# Altium footprint library UFQFPN48.PcbLib: 1 footprints
Each footprint in its own frame and in the unit in brackets; x right, y up, seen from the top. Pads: shape width x height; smd on the part's side, far side on the other; paste and mask are expansions set on the pad; w line width, h text height; cw(c..) or ccw(c..) is an arc to the next point about the centre after c.
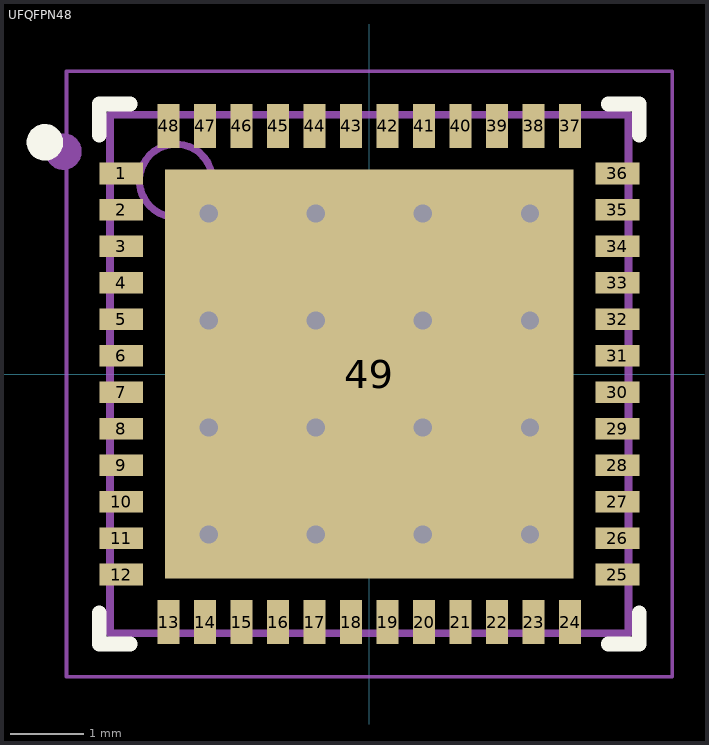
[diagram p0: the footprint, top view; thin cyan lines are the x and y axes]

## UFQFPN48 [mm]
pads (49):
  rect 0.6x0.3 smd: 1(-3.4,2.75) 2(-3.4,2.25) 3(-3.4,1.75) 4(-3.4,1.25) 5(-3.4,0.75) 6(-3.4,0.25) 7(-3.4,-0.25) 8(-3.4,-0.75) 9(-3.4,-1.25) 10(-3.4,-1.75) 11(-3.4,-2.25) 12(-3.4,-2.75) 25(3.4,-2.75) 26(3.4,-2.25) 27(3.4,-1.75) 28(3.4,-1.25) 29(3.4,-0.75) 30(3.4,-0.25) 31(3.4,0.25) 32(3.4,0.75) 33(3.4,1.25) 34(3.4,1.75) 35(3.4,2.25) 36(3.4,2.75)
  rect 0.3x0.6 smd: 13(-2.75,-3.4) 14(-2.25,-3.4) 15(-1.75,-3.4) 16(-1.25,-3.4) 17(-0.75,-3.4) 18(-0.25,-3.4) 19(0.25,-3.4) 20(0.75,-3.4) 21(1.25,-3.4) 22(1.75,-3.4) 23(2.25,-3.4) 24(2.75,-3.4) 37(2.75,3.4) 38(2.25,3.4) 39(1.75,3.4) 40(1.25,3.4) 41(0.75,3.4) 42(0.25,3.4) 43(-0.25,3.4) 44(-0.75,3.4) 45(-1.25,3.4) 46(-1.75,3.4) 47(-2.25,3.4) 48(-2.75,3.4)
  rect 5.6x5.6 smd: 49(0,0)
via 2.2,2.2 diameter 0.6 hole 0.25
via 2.2,-2.2 diameter 0.6 hole 0.25
via 2.2,-0.733 diameter 0.6 hole 0.25
via 2.2,0.733 diameter 0.6 hole 0.25
via 0.733,2.2 diameter 0.6 hole 0.25
via 0.733,-2.2 diameter 0.6 hole 0.25
via 0.733,-0.733 diameter 0.6 hole 0.25
via 0.733,0.733 diameter 0.6 hole 0.25
via -0.733,2.2 diameter 0.6 hole 0.25
via -0.733,-2.2 diameter 0.6 hole 0.25
via -0.733,-0.733 diameter 0.6 hole 0.25
via -0.733,0.733 diameter 0.6 hole 0.25
via -2.2,2.2 diameter 0.6 hole 0.25
via -2.2,-2.2 diameter 0.6 hole 0.25
via -2.2,-0.733 diameter 0.6 hole 0.25
via -2.2,0.733 diameter 0.6 hole 0.25
Top Overlay:
  circle w0.25: c-4.445,3.175 r0.125
  lines w0.2: -3.7,-3.275 -3.7,-3.7 -3.275,-3.7 ; -3.7,3.275 -3.7,3.7 -3.275,3.7 ; 3.275,-3.7 3.7,-3.7 3.7,-3.275 ; 3.275,3.7 3.7,3.7 3.7,3.275
Mechanical 1:
  circle w0.25: c-4.191,3.048 r0.125
  lines w0.1: -3.556,-3.556 3.556,-3.556 3.556,3.556 -3.556,3.556 -3.556,-3.556
  text ".Designator" at 0,0.113 h0.6
Mechanical 13:
  circle w0.1: c-2.65,2.65 r0.5
  lines w0.1: -3.55,-3.55 3.55,-3.55 3.55,3.55 -3.55,3.55 -3.55,-3.55
Mechanical 15:
  lines w0.05: -4.15,-4.15 4.15,-4.15 4.15,4.15 -4.15,4.15 -4.15,-4.15
  lines w0.1: -0.5,0 0.5,0 ; 0,-0.5 0,0.5
3D body "User Library-UFQFPN48.STEP": height 0.55, standoff 0, extent -3.5,-3.5 3.5,3.5